# EAGLE library part V__VFD_FIP11BHM6 (library ++Bedrahtet)
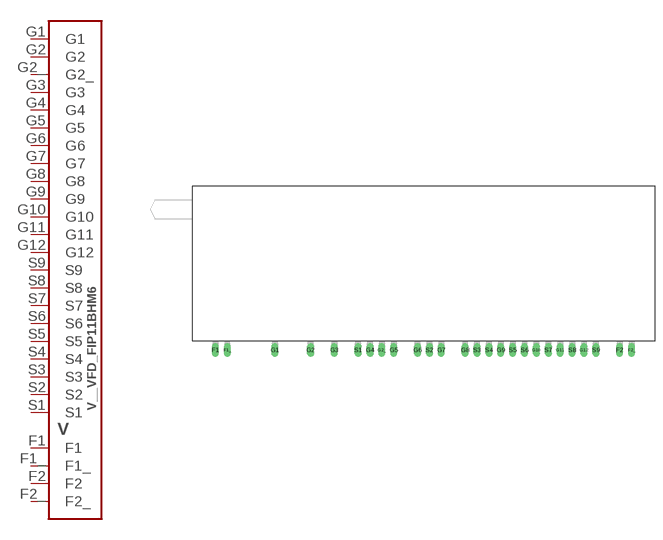
[diagram p33: symbol with the pads of VFD_FIP11BHM6; footprint VFD_FIP11BHM6]

Designator prefix V

## V__VFD_FIP11BHM6  [VFD_FIP11BHM6]
F1  F1
F1_  F1_
F2  F2
F2_  F2_
G1  G1
G2  G2
G2_  G2_
G3  G3
G4  G4
G5  G5
G6  G6
G7  G7
G8  G8
G9  G9
G10  G10
G11  G11
G12  G12
S1  S1
S2  S2
S3  S3
S4  S4
S5  S5
S6  S6
S7  S7
S8  S8
S9  S9

## Footprint VFD_FIP11BHM6 (pad centres in mm)
drill 1 long: F1 0,0; F1_ 2.54,0; F2 86.36,0; F2_ 88.9,0; G1 12.7,0; G2 20.32,0; G2_ 35.56,0; G3 25.4,0; G4 33.02,0; G5 38.1,0; G6 43.18,0; G7 48.26,0; G8 53.34,0; G9 60.96,0; G10 68.58,0; G11 73.66,0; G12 78.74,0; S1 30.48,0; S2 45.72,0; S3 55.88,0; S4 58.42,0; S5 63.5,0; S6 66.04,0; S7 71.12,0; S8 76.2,0; S9 81.28,0